# Altium schematic symbol library Ethernet_MLSoC.SchLib: 1 symbol
Pins are listed as number, name and electrical type; pins without a type are passive.

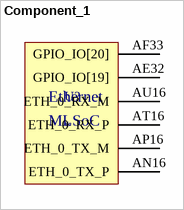
[diagram p0: symbol Component_1]

## Component_1
designator U?
pins: AE32 GPIO_IO[19], AF33 GPIO_IO[20], AN16 ETH_0_TX_P, AP16 ETH_0_TX_M, AT16 ETH_0_RX_P, AU16 ETH_0_RX_M
text: Ethernet; MLSoC